# EAGLE library part LMR51430 (library Bauteile)
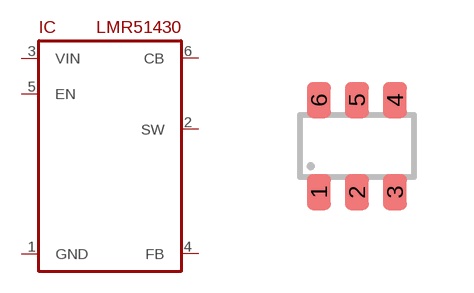
[diagram p112: symbol with the pads of SOT23-6; footprint SOT23-6]

Designator prefix IC

## LMR51430  [SOT23-6]
1  GND
2  SW
3  VIN
4  FB
5  EN
6  CB

## Footprint SOT23-6 (pad centres in mm)
SOT23-6 SOT26 SC59-6 SC74 TSOP-6 MO-178AB SMT6 SM6 Mini6 SOT457
smd 0.6 x 0.9: 1 -0.95,-1.15; 2 0,-1.15; 3 0.95,-1.15; 4 0.95,1.15; 5 0,1.15; 6 -0.95,1.15